# Altium footprint library SparkFun-Electromechanical.PCBLIB: 18 footprints (part 2 of 2)
Each footprint in its own frame and in the unit in brackets; x right, y up, seen from the top. Pads: shape width x height; smd on the part's side, far side on the other; paste and mask are expansions set on the pad; w line width, h text height; cw(c..) or ccw(c..) is an arc to the next point about the centre after c.
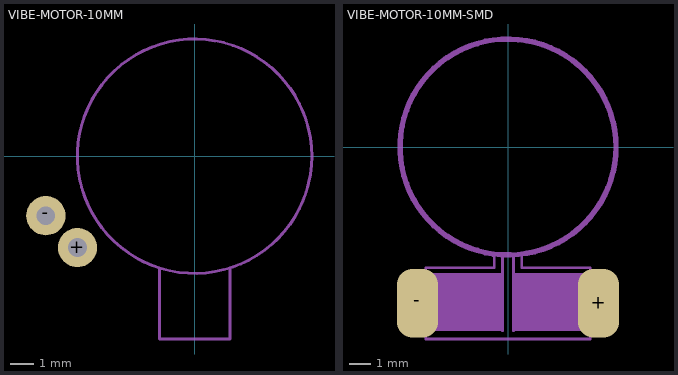
[diagram p1: the footprints below, top view; thin cyan lines are the x and y axes]

## VIBE-MOTOR-10MM [mil]
pads (2):
  round 66 hole 31.5: +(-196.85,-153.54) -(-250,-100)
tDocu:
  circle w5: c0,0 r196.89
  lines w5: -59.06,-188.98 -59.06,-307.09 59.06,-307.09 59.06,-188.98
tPlace:
  text "-" at -267.72,-78.74 h77.5
  text "+" at -185.04,-208.66 h77.5

## VIBE-MOTOR-10MM-SMD [mil]
pads (2):
  rrect75% 75x125 smd: +(165,-285) -(-165,-285)
tDocu:
  region: -140,-335 -140,-230 -10,-230 -10,-335
  region: 10,-335 10,-230 140,-230 140,-335
  lines w5: -25,-200 -25,-220 -150,-220 -150,-350 150,-350 150,-220 25,-220 25,-200 ; -10,-335 -10,-200 ; 10,-335 10,-200
  text "+" at 150,-200 h77.5
  text "-" at -180,-200 h77.5
tPlace:
  circle w10: c0,0 r196.89